# Altium footprint library MECH_Raspberry_PI_3_model.PcbLib: 1 footprints
Each footprint in its own frame and in the unit in brackets; x right, y up, seen from the top. Pads: shape width x height; smd on the part's side, far side on the other; paste and mask are expansions set on the pad; w line width, h text height; cw(c..) or ccw(c..) is an arc to the next point about the centre after c.
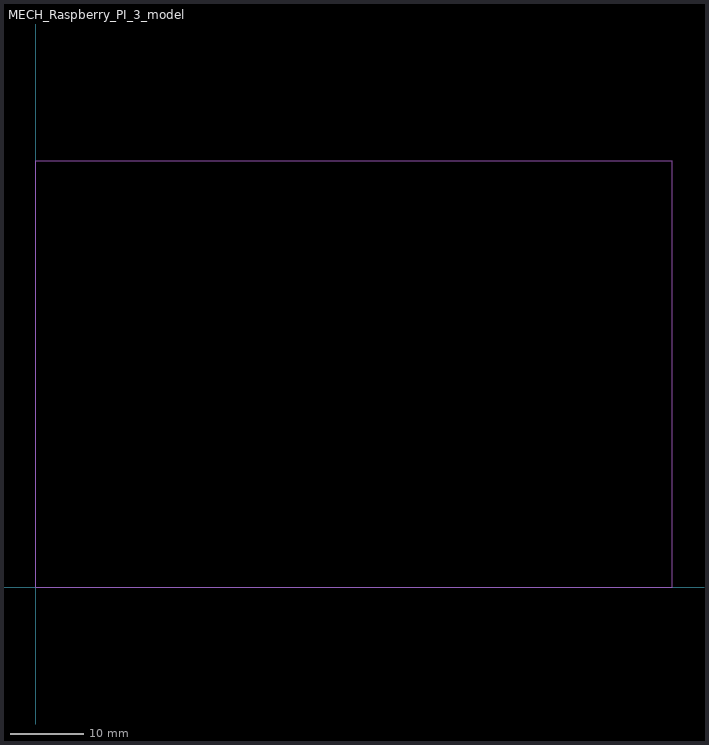
[diagram p0: the footprint, top view; thin cyan lines are the x and y axes]

## MECH_Raspberry_PI_3_model [mm]
Mechanical 13:
  lines w0.127: 0,0 87,0 87,58.35 0,58.35 0,0
3D body "RASPBERRY PI 3.STEP": height 16.2, standoff -1.3, extent 0,0 87,58.35